# Altium schematic symbol library INDUCTORS.SchLib: 22 symbols
Pins are listed as number, name and electrical type; pins without a type are passive.

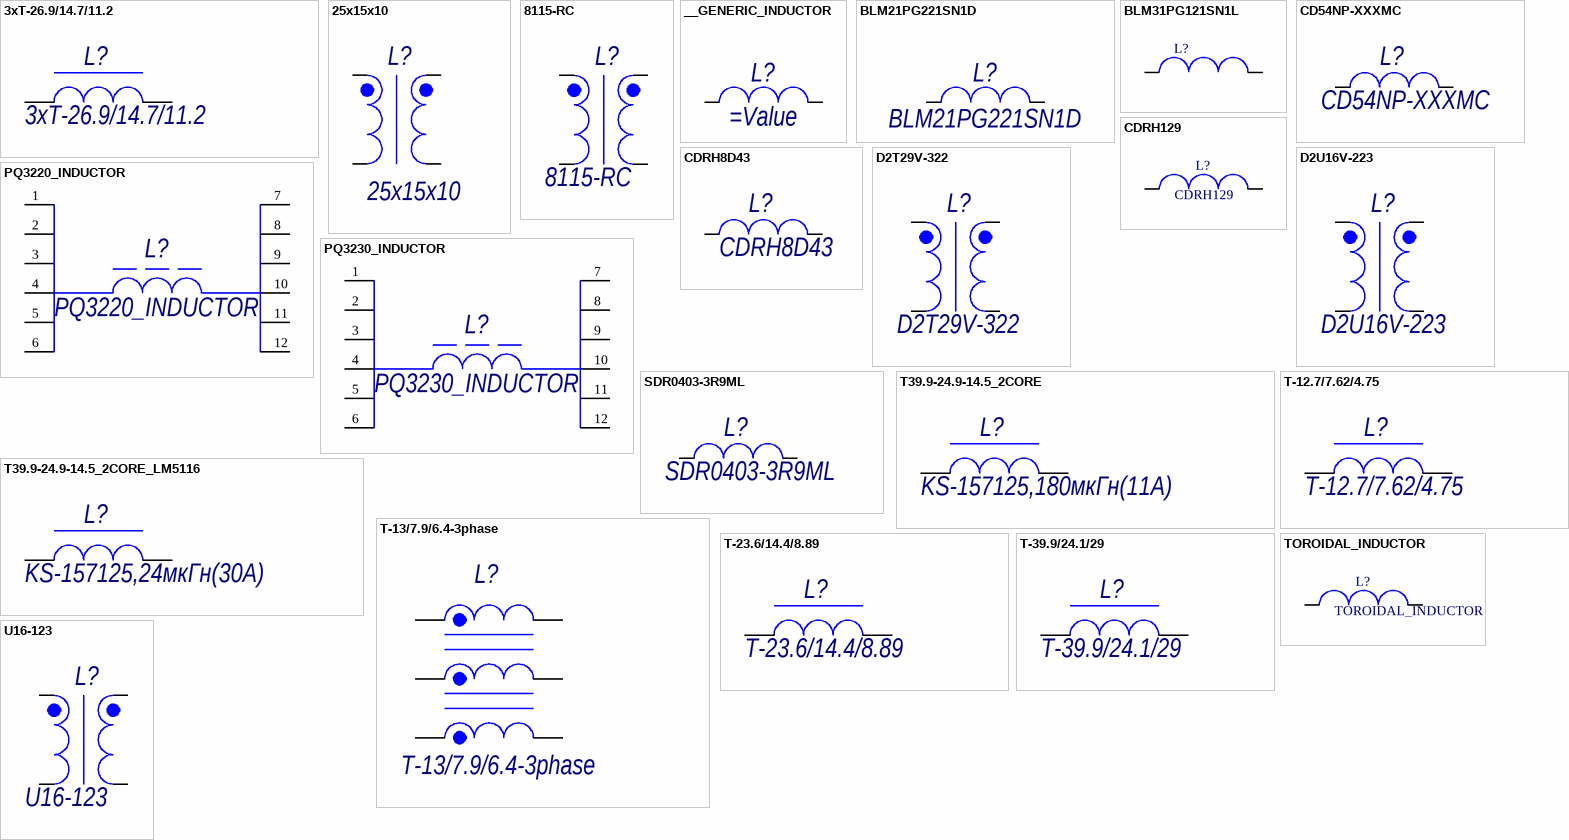
[diagram p0: symbols 3xT-26.9/14.7/11.2 to U16-123]

## 3xT-26.9/14.7/11.2
designator L?
Дроссель; ComponentDescription: =ComponentTypе+', '+Comment+', '+Package; ComponentTypе: Дроссель; Value: *
footprint 3xT-26,9/14,7/11,2
pins: 1, 2

## 25x15x10
designator L?
Дроссель синфазный; ComponentDescription: =ComponentTypе+', '+Comment+', '+Package; ComponentTypе: Дроссель синфазный
footprint R25x15x10
pins: 1, 2, 3, 4

## 8115-RC
designator L?
Дроссель синфазный; ComponentDescription: =ComponentTypе+', '+Comment+', '+Package; ComponentTypе: Дроссель синфазный
footprint 8115-RC
pins: 1, 2, 3, 4

## __GENERIC_INDUCTOR
designator L?
ЭМИ фильтр индуктивный; ComponentDescription: =ComponentTypе+', '+Comment+', '+Package; ComponentTypе: ЭМИ фильтр индуктивный
footprint L-1206 (Chip Resistor, 2-Leads, Body 3,20x1,60mm, IPC Medium Density)
footprint L-0805 (hip Inductor, 2-Leads, Body 2,00x1,25mm, IPC Medium Density)
footprint L-12x12x10
footprint L-4.5x4x3.2
footprint L-0603
pins: 1, 2

## BLM21PG221SN1D
designator L?
ЭМИ фильтр индуктивный; ComponentDescription: =ComponentTypе+', '+Comment+', '+Package; ComponentTypе: ЭМИ фильтр индуктивный
footprint L-0805 (hip Inductor, 2-Leads, Body 2,00x1,25mm, IPC Medium Density)
pins: 1, 2

## BLM31PG121SN1L
designator L?  (value not drawn)
ЭМИ фильтр индуктивный; ComponentDescription: =ComponentTypе+', '+Comment+', '+Package; ComponentTypе: ЭМИ фильтр индуктивный
footprint L-1206 (Chip Inductor 2-Leads, Body 3,20x1,60mm, IPC Medium Density)
pins: 1, 2

## CD54NP-XXXMC
designator L?
SMD дроссель; ComponentDescription: =ComponentTypе+', '+Comment+', '+Package; ComponentTypе: SMD дроссель
footprint L-5.8x5.2x4.5 (Дроссель SMD)
pins: 1, 2

## CDRH8D43
designator L?
SMD дроссель; ComponentDescription: =ComponentTypе+', '+Comment+', '+Package; ComponentTypе: SMD дроссель
footprint L-8.3x8.3x4.5 (Дроссель SMD)
pins: 1, 2

## CDRH129
designator L?
Дроссель; ComponentDescription: =ComponentTypе+', '+Comment+', '+Package; ComponentTypе: Дроссель
footprint L-12x12x10
pins: 1, 2

## D2T29V-322
designator L?
Дросель синфазный 2-х обм. х 3200 мкГн (-20% / +50%), Imax=12,0 А, D=33,4 мм C=19,6 мм; ComponentTypе: Дроссель синфазный; ComponentDescription: =ComponentTypе+', '+Comment+', '+Package
footprint D2T29V-322
pins: 1 E1, 2 S1, 3 E2, 4 S2

## D2U16V-223
designator L?
Дроссель синфазный; ComponentDescription: =ComponentTypе+', '+Comment+', '+Package; ComponentTypе: Дроссель синфазный
footprint UU16
pins: 1 E1, 2 S1, 3 E2, 4 S2

## PQ3220_INDUCTOR
designator L?
Дроссель на сердечнике PQ3220; ComponentDescription: =ComponentTypе+', '+Comment+', '+Package; ComponentTypе: Дроссель; Value: *
footprint PQ3220
pins: 1, 2, 3, 4, 5, 6, 7, 8, 9, 10, 11, 12

## PQ3230_INDUCTOR
designator L?
Дроссель на сердечнике PQ3230; ComponentDescription: =ComponentTypе+', '+Comment+', '+Package; ComponentTypе: Дроссель; Value: *
footprint PQ3230
pins: 1, 2, 3, 4, 5, 6, 7, 8, 9, 10, 11, 12

## SDR0403-3R9ML
designator L?
ComponentTypе: ЭМИ фильтр индуктивный; ComponentDescription: =ComponentTypе+', '+Comment+', '+Package
footprint L-4.5x4x3.2
pins: 1, 2

## T39.9-24.9-14.5_2CORE
designator L?, comment KS-157125,180мкГн(11А)
Дроссель. Сердечник KS-157125 (2 шт.) 380мкГн(0А),180мкГ(11А), 2 сердечника, 34 витка, AWG12; ComponentDescription: =ComponentTypе+', '+Comment+', '+Package; ComponentTypе: Дроссель; Value: *
footprint KS-157125(T39.9-24.9-14.5)_2CORE (Дроссель  380мкГн(0А),180мкГн(11А), 2 сердечника, 34 витка, AWG12)
footprint KS-157125(T39.9-24.9-14.5)_2CORE_H (Дроссель  380мкГн(0А),180мкГн(11А), 2 сердечника, 34 витка, AWG12)
pins: 1, 2

## T39.9-24.9-14.5_2CORE_LM5116
designator L?, comment KS-157125,24мкГн(30А)
Дроссель. Сердечник KS-157125 (2 шт.) 380мкГн(0А),180мкГ(11А), 2 сердечника, 34 витка, AWG12; ComponentDescription: =ComponentTypе+', '+Comment+', '+Package; ComponentTypе: Дроссель; Value: *
footprint KS-157125(T39.9-24.9-14.5)_2CORE_H - LM5116 (Дроссель  380мкГн(0А),180мкГн(11А), 2 сердечника, 34 витка, AWG12); pin to pad 1>1+2+3+4 2>5+6+7+8
pins: 1, 2

## T-12.7/7.62/4.75
designator L?
Дроссель; ComponentDescription: =ComponentTypе+', '+Comment+', '+Package; ComponentTypе: Дроссель; Value: *
footprint T-12.7/7.62/4.75
pins: 1, 2

## T-13/7.9/6.4-3phase
designator L?
Дроссель синфазный трёхфазный; ComponentDescription: =ComponentTypе+', '+Comment+', '+Package; ComponentTypе: Дроссель; Value: *
footprint T-13/7.9/6.4
pins: 1, 2, 3, 4, 5, 6

## T-23.6/14.4/8.89
designator L?
Дроссель; ComponentDescription: =ComponentTypе+', '+Comment+', '+Package; ComponentTypе: Дроссель; Value: *
footprint T-23.6/14.4/8.89
pins: 1, 2

## T-39.9/24.1/29
designator L?
Дроссель; ComponentDescription: =ComponentTypе+', '+Comment+', '+Package; ComponentTypе: Дроссель; Value: *
footprint T-39.9/24.1/29
pins: 1, 2

## TOROIDAL_INDUCTOR
designator L?
Дроссель; ComponentDescription: =ComponentTypе+', '+Comment+', '+Package; ComponentTypе: Дроссель
footprint TOROIDAL_INDUCTOR
pins: 1, 2

## U16-123
designator L?
Дроссель синфазный; ComponentDescription: =ComponentTypе+', '+Comment+', '+Package; ComponentTypе: Дроссель синфазный
footprint UU16
pins: 1 E1, 2 S1, 3 E2, 4 S2